# Altium integrated library Capacitor - Aluminium TH.IntLib: 4591 symbols (part 54 of 68)
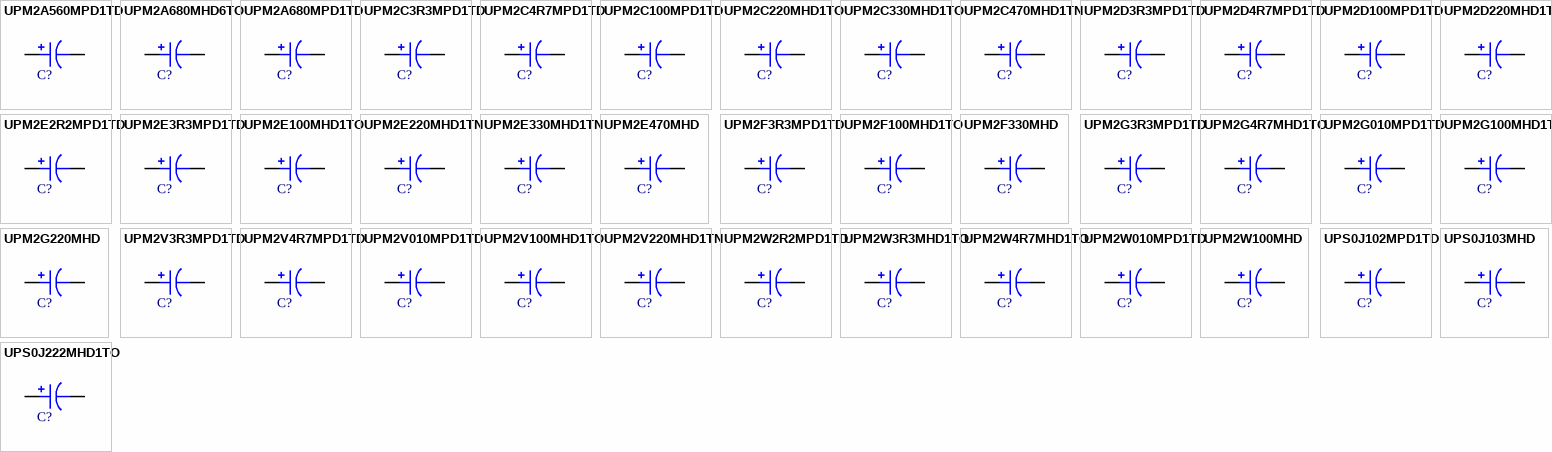
[diagram p167: symbols UPM2A560MPD1TD to UPS0J222MHD1TO]

## UPM2C330MHD1TO
designator C?, comment 33uF  (value not drawn)
CAP ALUM 33UF 20% 160V RADIAL; Part Number: UPM2C330MHD1TO; Manufacturer: Nichicon; TemperatureRange: -40C ~ 105C; Type: Polar; Ripple Current: 175mA @ 120Hz; Value: 33uF; PartId: 23850; Supplier 1: Digi-Key; Supplier Part Number 1: 493-5310-3-ND; ComponentLink1Description: Datasheet; ComponentLink1URL: http://nichicon-us.com/english/products/pdfs/e-upm.pdf; ComponentLink2Description: Digi-Key Listing; ComponentLink2URL: https://www.digikey.com/product-detail/en/nichicon/UPM2C330MHD1TO/493-5310-3-ND/3130315; Tolerance: 20%; Voltage: 160V; Price: 0.6225; Device Package: Radial, Can, 12.5mm
footprint CAP AL TH D12.5 L5 H27
pins: 1, 2

## UPM2C470MHD1TN
designator C?, comment 47uF  (value not drawn)
CAP ALUM 47UF 20% 160V RADIAL; Part Number: UPM2C470MHD1TN; Manufacturer: Nichicon; TemperatureRange: -40C ~ 105C; Type: Polar; Ripple Current: 220mA @ 120Hz; Value: 47uF; PartId: 26797; Supplier 1: Digi-Key; Supplier Part Number 1: 493-5312-3-ND; ComponentLink1Description: Datasheet; ComponentLink1URL: http://nichicon-us.com/english/products/pdfs/e-upm.pdf; ComponentLink2Description: Digi-Key Listing; ComponentLink2URL: https://www.digikey.com/product-detail/en/nichicon/UPM2C470MHD1TN/493-5312-3-ND/3130317; Tolerance: 20%; Voltage: 160V; Price: 0.719; Device Package: Radial, Can, 16mm
footprint CAP AL TH D16 L7.5 H27
pins: 1, 2

## UPM2D3R3MPD1TD
designator C?, comment 3.3uF  (value not drawn)
CAP ALUM 3.3UF 20% 200V RADIAL; Part Number: UPM2D3R3MPD1TD; Manufacturer: Nichicon; TemperatureRange: -40C ~ 105C; Type: Polar; Ripple Current: 50mA @ 120Hz; Value: 3.3uF; PartId: 24631; Supplier 1: Digi-Key; Supplier Part Number 1: 493-5317-3-ND; ComponentLink1Description: Datasheet; ComponentLink1URL: http://nichicon-us.com/english/products/pdfs/e-upm.pdf; ComponentLink2Description: Digi-Key Listing; ComponentLink2URL: https://www.digikey.com/product-detail/en/nichicon/UPM2D3R3MPD1TD/493-5317-3-ND/3130322; Tolerance: 20%; Voltage: 200V; Price: 0.2252; Device Package: Radial, Can, 10mm
footprint CAP AL TH D10 L5 H14.5
pins: 1, 2

## UPM2D4R7MPD1TD
designator C?, comment 4.7uF  (value not drawn)
CAP ALUM 4.7UF 20% 200V RADIAL; Part Number: UPM2D4R7MPD1TD; Manufacturer: Nichicon; TemperatureRange: -40C ~ 105C; Type: Polar; Ripple Current: 60mA @ 120Hz; Value: 4.7uF; PartId: 25097; Supplier 1: Digi-Key; Supplier Part Number 1: 493-5318-3-ND; ComponentLink1Description: Datasheet; ComponentLink1URL: http://nichicon-us.com/english/products/pdfs/e-upm.pdf; ComponentLink2Description: Digi-Key Listing; ComponentLink2URL: https://www.digikey.com/product-detail/en/nichicon/UPM2D4R7MPD1TD/493-5318-3-ND/3130323; Tolerance: 20%; Voltage: 200V; Price: 0.2789; Device Package: Radial, Can, 10mm
footprint CAP AL TH D10 L5 H17.5
pins: 1, 2

## UPM2D100MPD1TD
designator C?, comment 10uF  (value not drawn)
CAP ALUM 10UF 20% 200V RADIAL; Part Number: UPM2D100MPD1TD; Manufacturer: Nichicon; TemperatureRange: -40C ~ 105C; Type: Polar; Ripple Current: 95mA @ 120Hz; Value: 10uF; PartId: 25807; Supplier 1: Digi-Key; Supplier Part Number 1: 493-5315-3-ND; ComponentLink1Description: Datasheet; ComponentLink1URL: http://nichicon-us.com/english/products/pdfs/e-upm.pdf; ComponentLink2Description: Digi-Key Listing; ComponentLink2URL: https://www.digikey.com/product-detail/en/nichicon/UPM2D100MPD1TD/493-5315-3-ND/3130320; Tolerance: 20%; Voltage: 200V; Price: 0.3195; Device Package: Radial, Can, 10mm
footprint CAP AL TH D10 L5 H22
pins: 1, 2

## UPM2D220MHD1TO
designator C?, comment 22uF  (value not drawn)
CAP ALUM 22UF 20% 200V RADIAL; Part Number: UPM2D220MHD1TO; Manufacturer: Nichicon; TemperatureRange: -40C ~ 105C; Type: Polar; Ripple Current: 145mA @ 120Hz; Value: 22uF; PartId: 24142; Supplier 1: Digi-Key; Supplier Part Number 1: 493-12304-1-ND; ComponentLink1Description: Datasheet; ComponentLink1URL: http://nichicon-us.com/english/products/pdfs/e-upm.pdf; ComponentLink2Description: Digi-Key Listing; ComponentLink2URL: https://www.digikey.com/product-detail/en/nichicon/UPM2D220MHD1TO/493-12304-1-ND/4319690; Tolerance: 20%; Voltage: 200V; Price: 1.48; Device Package: Radial, Can, 12.5mm
footprint CAP AL TH D12.5 L5 H27
pins: 1, 2

## UPM2E2R2MPD1TD
designator C?, comment 2.2uF  (value not drawn)
CAP ALUM 2.2UF 20% 250V RADIAL; Part Number: UPM2E2R2MPD1TD; Manufacturer: Nichicon; TemperatureRange: -40C ~ 105C; Type: Polar; Ripple Current: 32mA @ 120Hz; Value: 2.2uF; PartId: 24629; Supplier 1: Digi-Key; Supplier Part Number 1: 493-5321-3-ND; ComponentLink1Description: Datasheet; ComponentLink1URL: http://nichicon-us.com/english/products/pdfs/e-upm.pdf; ComponentLink2Description: Digi-Key Listing; ComponentLink2URL: https://www.digikey.com/product-detail/en/nichicon/UPM2E2R2MPD1TD/493-5321-3-ND/3130326; Tolerance: 20%; Voltage: 250V; Price: 0.2252; Device Package: Radial, Can, 10mm
footprint CAP AL TH D10 L5 H14.5
pins: 1, 2

## UPM2E3R3MPD1TD
designator C?, comment 3.3uF  (value not drawn)
CAP ALUM 3.3UF 20% 250V RADIAL; Part Number: UPM2E3R3MPD1TD; Manufacturer: Nichicon; TemperatureRange: -40C ~ 105C; Type: Polar; Ripple Current: 52mA @ 120Hz; Value: 3.3uF; PartId: 25096; Supplier 1: Digi-Key; Supplier Part Number 1: 493-5323-3-ND; ComponentLink1Description: Datasheet; ComponentLink1URL: http://nichicon-us.com/english/products/pdfs/e-upm.pdf; ComponentLink2Description: Digi-Key Listing; ComponentLink2URL: https://www.digikey.com/product-detail/en/nichicon/UPM2E3R3MPD1TD/493-5323-3-ND/3130328; Tolerance: 20%; Voltage: 250V; Price: 0.2766; Device Package: Radial, Can, 10mm
footprint CAP AL TH D10 L5 H17.5
pins: 1, 2

## UPM2E100MHD1TO
designator C?, comment 10uF  (value not drawn)
CAP ALUM 10UF 20% 250V RADIAL; Part Number: UPM2E100MHD1TO; Manufacturer: Nichicon; TemperatureRange: -40C ~ 105C; Type: Polar; Ripple Current: 98mA @ 120Hz; Value: 10uF; PartId: 23184; Supplier 1: Digi-Key; Supplier Part Number 1: 493-5319-3-ND; ComponentLink1Description: Datasheet; ComponentLink1URL: http://nichicon-us.com/english/products/pdfs/e-upm.pdf; ComponentLink2Description: Digi-Key Listing; ComponentLink2URL: https://www.digikey.com/product-detail/en/nichicon/UPM2E100MHD1TO/493-5319-3-ND/3130324; Tolerance: 20%; Voltage: 250V; Price: 0.4217; Device Package: Radial, Can, 12.5mm
footprint CAP AL TH D12.5 L5 H22
pins: 1, 2

## UPM2E220MHD1TN
designator C?, comment 22uF  (value not drawn)
CAP ALUM 22UF 20% 250V RADIAL; Part Number: UPM2E220MHD1TN; Manufacturer: Nichicon; TemperatureRange: -40C ~ 105C; Type: Polar; Ripple Current: 150mA @ 120Hz; Value: 22uF; PartId: 26794; Supplier 1: Digi-Key; Supplier Part Number 1: 493-5320-3-ND; ComponentLink1Description: Datasheet; ComponentLink1URL: http://nichicon-us.com/english/products/pdfs/e-upm.pdf; ComponentLink2Description: Digi-Key Listing; ComponentLink2URL: https://www.digikey.com/product-detail/en/nichicon/UPM2E220MHD1TN/493-5320-3-ND/3130325; Tolerance: 20%; Voltage: 250V; Price: 0.6906; Device Package: Radial, Can, 16mm
footprint CAP AL TH D16 L7.5 H27
pins: 1, 2

## UPM2E330MHD1TN
designator C?, comment 33uF  (value not drawn)
CAP ALUM 33UF 20% 250V RADIAL; Part Number: UPM2E330MHD1TN; Manufacturer: Nichicon; TemperatureRange: -40C ~ 105C; Type: Polar; Ripple Current: 180mA @ 120Hz; Value: 33uF; PartId: 26801; Supplier 1: Digi-Key; Supplier Part Number 1: 493-5322-3-ND; ComponentLink1Description: Datasheet; ComponentLink1URL: http://nichicon-us.com/english/products/pdfs/e-upm.pdf; ComponentLink2Description: Digi-Key Listing; ComponentLink2URL: https://www.digikey.com/product-detail/en/nichicon/UPM2E330MHD1TN/493-5322-3-ND/3130327; Tolerance: 20%; Voltage: 250V; Price: 0.7488; Device Package: Radial, Can, 16mm
footprint CAP AL TH D16 L7.5 H27
pins: 1, 2

## UPM2E470MHD
designator C?, comment 47uF  (value not drawn)
CAP ALUM 47UF 20% 250V RADIAL; Part Number: UPM2E470MHD; Manufacturer: Nichicon; TemperatureRange: -40C ~ 105C; Type: Polar; Ripple Current: 225mA @ 120Hz; Value: 47uF; PartId: 27125; Supplier 1: Digi-Key; Supplier Part Number 1: 493-5640-ND; ComponentLink1Description: Datasheet; ComponentLink1URL: http://nichicon-us.com/english/products/pdfs/e-upm.pdf; ComponentLink2Description: Digi-Key Listing; ComponentLink2URL: https://www.digikey.com/product-detail/en/nichicon/UPM2E470MHD/493-5640-ND/2599852; Tolerance: 20%; Voltage: 250V; Price: 1.76; Device Package: Radial, Can, 16mm
footprint CAP AL TH D16 L7.5 H33.5
pins: 1, 2

## UPM2F3R3MPD1TD
designator C?, comment 3.3uF  (value not drawn)
CAP ALUM 3.3UF 20% 315V RADIAL; Part Number: UPM2F3R3MPD1TD; Manufacturer: Nichicon; TemperatureRange: -40C ~ 105C; Type: Polar; Ripple Current: 52mA @ 120Hz; Value: 3.3uF; PartId: 25100; Supplier 1: Digi-Key; Supplier Part Number 1: 493-5327-3-ND; ComponentLink1Description: Datasheet; ComponentLink1URL: http://nichicon-us.com/english/products/pdfs/e-upm.pdf; ComponentLink2Description: Digi-Key Listing; ComponentLink2URL: https://www.digikey.com/product-detail/en/nichicon/UPM2F3R3MPD1TD/493-5327-3-ND/3130332; Tolerance: 20%; Voltage: 315V; Price: 0.2806; Device Package: Radial, Can, 10mm
footprint CAP AL TH D10 L5 H17.5
pins: 1, 2

## UPM2F100MHD1TO
designator C?, comment 10uF  (value not drawn)
CAP ALUM 10UF 20% 315V RADIAL; Part Number: UPM2F100MHD1TO; Manufacturer: Nichicon; TemperatureRange: -40C ~ 105C; Type: Polar; Ripple Current: 98mA @ 120Hz; Value: 10uF; PartId: 23420; Supplier 1: Digi-Key; Supplier Part Number 1: 493-5324-1-ND; ComponentLink1Description: Datasheet; ComponentLink1URL: http://nichicon-us.com/english/products/pdfs/e-upm.pdf; ComponentLink2Description: Digi-Key Listing; ComponentLink2URL: https://www.digikey.com/product-detail/en/nichicon/UPM2F100MHD1TO/493-5324-1-ND/3129661; Tolerance: 20%; Voltage: 315V; Price: 1; Device Package: Radial, Can, 12.5mm
footprint CAP AL TH D12.5 L5 H22
pins: 1, 2

## UPM2F330MHD
designator C?, comment 33uF  (value not drawn)
CAP ALUM 33UF 20% 315V RADIAL; Part Number: UPM2F330MHD; Manufacturer: Nichicon; TemperatureRange: -40C ~ 105C; Type: Polar; Ripple Current: 184mA @ 120Hz; Value: 33uF; PartId: 27136; Supplier 1: Digi-Key; Supplier Part Number 1: 493-5641-ND; ComponentLink1Description: Datasheet; ComponentLink1URL: http://nichicon-us.com/english/products/pdfs/e-upm.pdf; ComponentLink2Description: Digi-Key Listing; ComponentLink2URL: https://www.digikey.com/product-detail/en/nichicon/UPM2F330MHD/493-5641-ND/2599858; Tolerance: 20%; Voltage: 315V; Price: 1.79; Device Package: Radial, Can, 16mm
footprint CAP AL TH D16 L7.5 H33.5
pins: 1, 2

## UPM2G3R3MPD1TD
designator C?, comment 3.3uF  (value not drawn)
CAP ALUM 3.3UF 20% 400V RADIAL; Part Number: UPM2G3R3MPD1TD; Manufacturer: Nichicon; TemperatureRange: -40C ~ 105C; Type: Polar; Ripple Current: 47mA @ 120Hz; Value: 3.3uF; PartId: 25820; Supplier 1: Digi-Key; Supplier Part Number 1: 493-5331-3-ND; ComponentLink1Description: Datasheet; ComponentLink1URL: http://nichicon-us.com/english/products/pdfs/e-upm.pdf; ComponentLink2Description: Digi-Key Listing; ComponentLink2URL: https://www.digikey.com/product-detail/en/nichicon/UPM2G3R3MPD1TD/493-5331-3-ND/3130336; Tolerance: 20%; Voltage: 400V; Price: 0.3389; Device Package: Radial, Can, 10mm
footprint CAP AL TH D10 L5 H22
pins: 1, 2

## UPM2G4R7MHD1TO
designator C?, comment 4.7uF  (value not drawn)
CAP ALUM 4.7UF 20% 400V RADIAL; Part Number: UPM2G4R7MHD1TO; Manufacturer: Nichicon; TemperatureRange: -40C ~ 105C; Type: Polar; Ripple Current: 55mA @ 120Hz; Value: 4.7uF; PartId: 23198; Supplier 1: Digi-Key; Supplier Part Number 1: 493-5332-3-ND; ComponentLink1Description: Datasheet; ComponentLink1URL: http://nichicon-us.com/english/products/pdfs/e-upm.pdf; ComponentLink2Description: Digi-Key Listing; ComponentLink2URL: https://www.digikey.com/product-detail/en/nichicon/UPM2G4R7MHD1TO/493-5332-3-ND/3130337; Tolerance: 20%; Voltage: 400V; Price: 0.4528; Device Package: Radial, Can, 12.5mm
footprint CAP AL TH D12.5 L5 H22
pins: 1, 2

## UPM2G010MPD1TD
designator C?, comment 1uF  (value not drawn)
CAP ALUM 1UF 20% 400V RADIAL; Part Number: UPM2G010MPD1TD; Manufacturer: Nichicon; TemperatureRange: -40C ~ 105C; Type: Polar; Ripple Current: 17mA @ 120Hz; Value: 1uF; PartId: 24649; Supplier 1: Digi-Key; Supplier Part Number 1: 493-5329-3-ND; ComponentLink1Description: Datasheet; ComponentLink1URL: http://nichicon-us.com/english/products/pdfs/e-upm.pdf; ComponentLink2Description: Digi-Key Listing; ComponentLink2URL: https://www.digikey.com/product-detail/en/nichicon/UPM2G010MPD1TD/493-5329-3-ND/3130334; Tolerance: 20%; Voltage: 400V; Price: 0.253; Device Package: Radial, Can, 10mm
footprint CAP AL TH D10 L5 H14.5
pins: 1, 2

## UPM2G100MHD1TO
designator C?, comment 10uF  (value not drawn)
CAP ALUM 10UF 20% 400V RADIAL; Part Number: UPM2G100MHD1TO; Manufacturer: Nichicon; TemperatureRange: -40C ~ 105C; Type: Polar; Ripple Current: 85mA @ 120Hz; Value: 10uF; PartId: 24169; Supplier 1: Digi-Key; Supplier Part Number 1: 493-5330-1-ND; ComponentLink1Description: Datasheet; ComponentLink1URL: http://nichicon-us.com/english/products/pdfs/e-upm.pdf; ComponentLink2Description: Digi-Key Listing; ComponentLink2URL: https://www.digikey.com/product-detail/en/nichicon/UPM2G100MHD1TO/493-5330-1-ND/3129667; Tolerance: 20%; Voltage: 400V; Price: 1.66; Device Package: Radial, Can, 12.5mm
footprint CAP AL TH D12.5 L5 H27
pins: 1, 2

## UPM2G220MHD
designator C?, comment 22uF  (value not drawn)
CAP ALUM 22UF 20% 400V RADIAL; Part Number: UPM2G220MHD; Manufacturer: Nichicon; TemperatureRange: -40C ~ 105C; Type: Polar; Ripple Current: 130mA @ 120Hz; Value: 22uF; PartId: 27187; Supplier 1: Digi-Key; Supplier Part Number 1: 493-5643-ND; ComponentLink1Description: Datasheet; ComponentLink1URL: http://nichicon-us.com/english/products/pdfs/e-upm.pdf; ComponentLink2Description: Digi-Key Listing; ComponentLink2URL: https://www.digikey.com/product-detail/en/nichicon/UPM2G220MHD/493-5643-ND/2599864; Tolerance: 20%; Voltage: 400V; Price: 1.97; Device Package: Radial, Can, 16mm
footprint CAP AL TH D16 L7.5 H33.5
pins: 1, 2

## UPM2V3R3MPD1TD
designator C?, comment 3.3uF  (value not drawn)
CAP ALUM 3.3UF 20% 350V RADIAL; Part Number: UPM2V3R3MPD1TD; Manufacturer: Nichicon; TemperatureRange: -40C ~ 105C; Type: Polar; Ripple Current: 54mA @ 120Hz; Value: 3.3uF; PartId: 25806; Supplier 1: Digi-Key; Supplier Part Number 1: 493-5336-3-ND; ComponentLink1Description: Datasheet; ComponentLink1URL: http://nichicon-us.com/english/products/pdfs/e-upm.pdf; ComponentLink2Description: Digi-Key Listing; ComponentLink2URL: https://www.digikey.com/product-detail/en/nichicon/UPM2V3R3MPD1TD/493-5336-3-ND/3130341; Tolerance: 20%; Voltage: 350V; Price: 0.3195; Device Package: Radial, Can, 10mm
footprint CAP AL TH D10 L5 H22
pins: 1, 2

## UPM2V4R7MPD1TD
designator C?, comment 4.7uF  (value not drawn)
CAP ALUM 4.7UF 20% 350V RADIAL; Part Number: UPM2V4R7MPD1TD; Manufacturer: Nichicon; TemperatureRange: -40C ~ 105C; Type: Polar; Ripple Current: 65mA @ 120Hz; Value: 4.7uF; PartId: 25816; Supplier 1: Digi-Key; Supplier Part Number 1: 493-5337-3-ND; ComponentLink1Description: Datasheet; ComponentLink1URL: http://nichicon-us.com/english/products/pdfs/e-upm.pdf; ComponentLink2Description: Digi-Key Listing; ComponentLink2URL: https://www.digikey.com/product-detail/en/nichicon/UPM2V4R7MPD1TD/493-5337-3-ND/3130342; Tolerance: 20%; Voltage: 350V; Price: 0.3359; Device Package: Radial, Can, 10mm
footprint CAP AL TH D10 L5 H22
pins: 1, 2

## UPM2V010MPD1TD
designator C?, comment 1uF  (value not drawn)
CAP ALUM 1UF 20% 350V RADIAL; Part Number: UPM2V010MPD1TD; Manufacturer: Nichicon; TemperatureRange: -40C ~ 105C; Type: Polar; Ripple Current: 21mA @ 120Hz; Value: 1uF; PartId: 24634; Supplier 1: Digi-Key; Supplier Part Number 1: 493-5333-3-ND; ComponentLink1Description: Datasheet; ComponentLink1URL: http://nichicon-us.com/english/products/pdfs/e-upm.pdf; ComponentLink2Description: Digi-Key Listing; ComponentLink2URL: https://www.digikey.com/product-detail/en/nichicon/UPM2V010MPD1TD/493-5333-3-ND/3130338; Tolerance: 20%; Voltage: 350V; Price: 0.2294; Device Package: Radial, Can, 10mm
footprint CAP AL TH D10 L5 H14.5
pins: 1, 2

## UPM2V100MHD1TO
designator C?, comment 10uF  (value not drawn)
CAP ALUM 10UF 20% 350V RADIAL; Part Number: UPM2V100MHD1TO; Manufacturer: Nichicon; TemperatureRange: -40C ~ 105C; Type: Polar; Ripple Current: 100mA @ 120Hz; Value: 10uF; PartId: 24152; Supplier 1: Digi-Key; Supplier Part Number 1: 493-5334-1-ND; ComponentLink1Description: Datasheet; ComponentLink1URL: http://nichicon-us.com/english/products/pdfs/e-upm.pdf; ComponentLink2Description: Digi-Key Listing; ComponentLink2URL: https://www.digikey.com/product-detail/en/nichicon/UPM2V100MHD1TO/493-5334-1-ND/3129671; Tolerance: 20%; Voltage: 350V; Price: 1.53; Device Package: Radial, Can, 12.5mm
footprint CAP AL TH D12.5 L5 H27
pins: 1, 2

## UPM2V220MHD1TN
designator C?, comment 22uF  (value not drawn)
CAP ALUM 22UF 20% 350V RADIAL; Part Number: UPM2V220MHD1TN; Manufacturer: Nichicon; TemperatureRange: -40C ~ 105C; Type: Polar; Ripple Current: 150mA @ 120Hz; Value: 22uF; PartId: 26806; Supplier 1: Digi-Key; Supplier Part Number 1: 493-5335-3-ND; ComponentLink1Description: Datasheet; ComponentLink1URL: http://nichicon-us.com/english/products/pdfs/e-upm.pdf; ComponentLink2Description: Digi-Key Listing; ComponentLink2URL: https://www.digikey.com/product-detail/en/nichicon/UPM2V220MHD1TN/493-5335-3-ND/3130340; Tolerance: 20%; Voltage: 350V; Price: 0.8342; Device Package: Radial, Can, 16mm
footprint CAP AL TH D16 L7.5 H27
pins: 1, 2

## UPM2W2R2MPD1TD
designator C?, comment 2.2uF  (value not drawn)
CAP ALUM 2.2UF 20% 450V RADIAL; Part Number: UPM2W2R2MPD1TD; Manufacturer: Nichicon; TemperatureRange: -25C ~ 105C; Type: Polar; Ripple Current: 28mA @ 120Hz; Value: 2.2uF; PartId: 25815; Supplier 1: Digi-Key; Supplier Part Number 1: 493-5339-3-ND; ComponentLink1Description: Datasheet; ComponentLink1URL: http://nichicon-us.com/english/products/pdfs/e-upm.pdf; ComponentLink2Description: Digi-Key Listing; ComponentLink2URL: https://www.digikey.com/product-detail/en/nichicon/UPM2W2R2MPD1TD/493-5339-3-ND/3130344; Tolerance: 20%; Voltage: 450V; Price: 0.3346; Device Package: Radial, Can, 10mm
footprint CAP AL TH D10 L5 H22
pins: 1, 2

## UPM2W3R3MHD1TO
designator C?, comment 3.3uF  (value not drawn)
CAP ALUM 3.3UF 20% 450V RADIAL; Part Number: UPM2W3R3MHD1TO; Manufacturer: Nichicon; TemperatureRange: -25C ~ 105C; Type: Polar; Ripple Current: 48mA @ 120Hz; Value: 3.3uF; PartId: 23199; Supplier 1: Digi-Key; Supplier Part Number 1: 493-12204-3-ND; ComponentLink1Description: Datasheet; ComponentLink1URL: http://nichicon-us.com/english/products/pdfs/e-upm.pdf; ComponentLink2Description: Digi-Key Listing; ComponentLink2URL: https://www.digikey.com/product-detail/en/nichicon/UPM2W3R3MHD1TO/493-12204-3-ND/4321347; Tolerance: 20%; Voltage: 450V; Price: 0.4528; Device Package: Radial, Can, 12.5mm
footprint CAP AL TH D12.5 L5 H22
pins: 1, 2

## UPM2W4R7MHD1TO
designator C?, comment 4.7uF  (value not drawn)
CAP ALUM 4.7UF 20% 450V RADIAL; Part Number: UPM2W4R7MHD1TO; Manufacturer: Nichicon; TemperatureRange: -25C ~ 105C; Type: Polar; Ripple Current: 55mA @ 120Hz; Value: 4.7uF; PartId: 23859; Supplier 1: Digi-Key; Supplier Part Number 1: 493-5340-3-ND; ComponentLink1Description: Datasheet; ComponentLink1URL: http://nichicon-us.com/english/products/pdfs/e-upm.pdf; ComponentLink2Description: Digi-Key Listing; ComponentLink2URL: https://www.digikey.com/product-detail/en/nichicon/UPM2W4R7MHD1TO/493-5340-3-ND/3130345; Tolerance: 20%; Voltage: 450V; Price: 0.656; Device Package: Radial, Can, 12.5mm
footprint CAP AL TH D12.5 L5 H27
pins: 1, 2

## UPM2W010MPD1TD
designator C?, comment 1uF  (value not drawn)
CAP ALUM 1UF 20% 450V RADIAL; Part Number: UPM2W010MPD1TD; Manufacturer: Nichicon; TemperatureRange: -25C ~ 105C; Type: Polar; Ripple Current: 17mA @ 120Hz; Value: 1uF; PartId: 25112; Supplier 1: Digi-Key; Supplier Part Number 1: 493-5338-3-ND; ComponentLink1Description: Datasheet; ComponentLink1URL: http://nichicon-us.com/english/products/pdfs/e-upm.pdf; ComponentLink2Description: Digi-Key Listing; ComponentLink2URL: https://www.digikey.com/product-detail/en/nichicon/UPM2W010MPD1TD/493-5338-3-ND/3130343; Tolerance: 20%; Voltage: 450V; Price: 0.3068; Device Package: Radial, Can, 10mm
footprint CAP AL TH D10 L5 H17.5
pins: 1, 2

## UPM2W100MHD
designator C?, comment 10uF  (value not drawn)
CAP ALUM 10UF 20% 450V RADIAL; Part Number: UPM2W100MHD; Manufacturer: Nichicon; TemperatureRange: -25C ~ 105C; Type: Polar; Ripple Current: 90mA @ 120Hz; Value: 10uF; PartId: 26941; Supplier 1: Digi-Key; Supplier Part Number 1: UPM2W100MHD-ND; ComponentLink1Description: Datasheet; ComponentLink1URL: http://nichicon-us.com/english/products/pdfs/e-upm.pdf; ComponentLink2Description: Digi-Key Listing; ComponentLink2URL: https://www.digikey.com/product-detail/en/nichicon/UPM2W100MHD/UPM2W100MHD-ND/2599878; Tolerance: 20%; Voltage: 450V; Price: 1.87; Device Package: Radial, Can, 16mm
footprint CAP AL TH D16 L7.5 H27
pins: 1, 2

## UPS0J102MPD1TD
designator C?, comment 1000uF  (value not drawn)
CAP ALUM 1000UF 20% 6.3V RADIAL; Part Number: UPS0J102MPD1TD; Manufacturer: Nichicon; TemperatureRange: -55C ~ 105C; Type: Polar; Ripple Current: 522mA @ 120Hz; Impedance: 190 mOhm; Value: 1000uF; PartId: 24899; Supplier 1: Digi-Key; Supplier Part Number 1: 493-5342-1-ND; ComponentLink1Description: Datasheet; ComponentLink1URL: http://nichicon-us.com/english/products/pdfs/e-ups.pdf; ComponentLink2Description: Digi-Key Listing; ComponentLink2URL: https://www.digikey.com/product-detail/en/nichicon/UPS0J102MPD1TD/493-5342-1-ND/3129679; Tolerance: 20%; Voltage: 6.3V; Price: 0.48; Device Package: Radial, Can, 10mm
footprint CAP AL TH D10 L5 H14.5
pins: 1, 2

## UPS0J103MHD
designator C?, comment 10000uF  (value not drawn)
CAP ALUM 10000UF 20% 6.3V RADIAL; Part Number: UPS0J103MHD; Manufacturer: Nichicon; TemperatureRange: -55C ~ 105C; Type: Polar; Ripple Current: 2.045A @ 120Hz; Impedance: 33 mOhm; Value: 10000uF; PartId: 27151; Supplier 1: Digi-Key; Supplier Part Number 1: 493-5648-ND; ComponentLink1Description: Datasheet; ComponentLink1URL: http://nichicon-us.com/english/products/pdfs/e-ups.pdf; ComponentLink2Description: Digi-Key Listing; ComponentLink2URL: https://www.digikey.com/product-detail/en/nichicon/UPS0J103MHD/493-5648-ND/2599886; Tolerance: 20%; Voltage: 6.3V; Price: 1.85; Device Package: Radial, Can, 16mm
footprint CAP AL TH D16 L7.5 H33.5
pins: 1, 2

## UPS0J222MHD1TO
designator C?, comment 2200uF  (value not drawn)
CAP ALUM 2200UF 20% 6.3V RADIAL; Part Number: UPS0J222MHD1TO; Manufacturer: Nichicon; TemperatureRange: -55C ~ 105C; Type: Polar; Ripple Current: 1.088A @ 120Hz; Impedance: 75 mOhm; Value: 2200uF; PartId: 23131; Supplier 1: Digi-Key; Supplier Part Number 1: 493-5345-3-ND; ComponentLink1Description: Datasheet; ComponentLink1URL: http://nichicon-us.com/english/products/pdfs/e-ups.pdf; ComponentLink2Description: Digi-Key Listing; ComponentLink2URL: https://www.digikey.com/product-detail/en/nichicon/UPS0J222MHD1TO/493-5345-3-ND/3130350; Tolerance: 20%; Voltage: 6.3V; Price: 0.242; Device Package: Radial, Can, 12.5mm
footprint CAP AL TH D12.5 L5 H22
pins: 1, 2

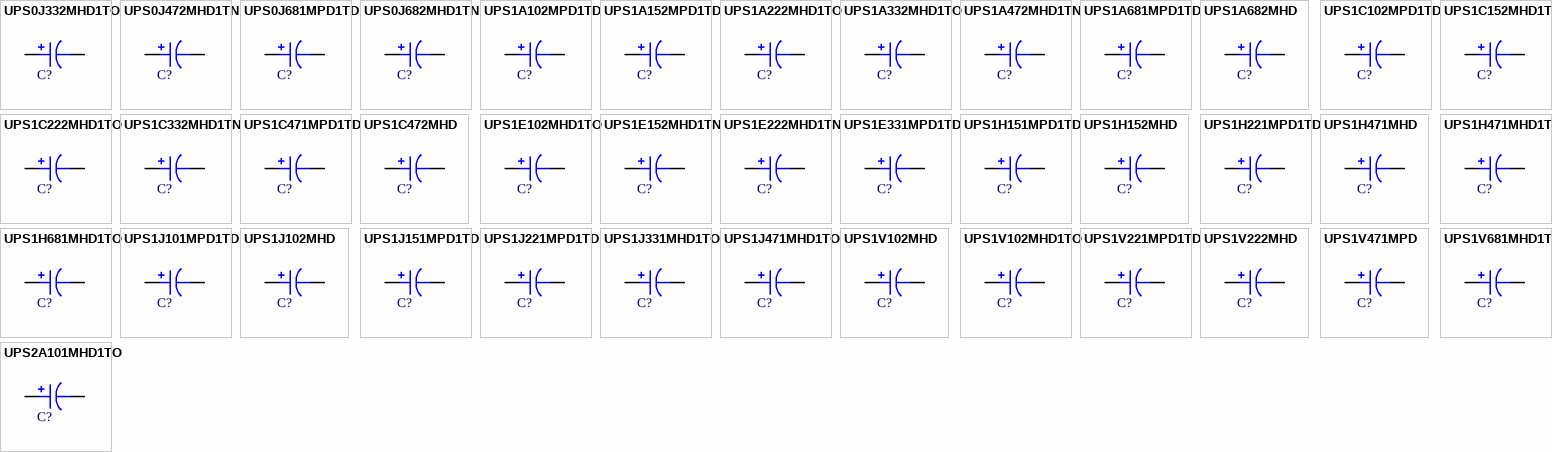
[diagram p90: symbols UPS0J332MHD1TO to UPS2A101MHD1TO]

## UPS0J332MHD1TO
designator C?, comment 3300uF  (value not drawn)
CAP ALUM 3300UF 20% 6.3V RADIAL; Part Number: UPS0J332MHD1TO; Manufacturer: Nichicon; TemperatureRange: -55C ~ 105C; Type: Polar; Ripple Current: 1.088A @ 120Hz; Impedance: 75 mOhm; Value: 3300uF; PartId: 23130; Supplier 1: Digi-Key; Supplier Part Number 1: 493-5348-3-ND; ComponentLink1Description: Datasheet; ComponentLink1URL: http://nichicon-us.com/english/products/pdfs/e-ups.pdf; ComponentLink2Description: Digi-Key Listing; ComponentLink2URL: https://www.digikey.com/product-detail/en/nichicon/UPS0J332MHD1TO/493-5348-3-ND/3130353; Tolerance: 20%; Voltage: 6.3V; Price: 0.2408; Device Package: Radial, Can, 12.5mm
footprint CAP AL TH D12.5 L5 H22
pins: 1, 2

## UPS0J472MHD1TN
designator C?, comment 4700uF  (value not drawn)
CAP ALUM 4700UF 20% 6.3V RADIAL; Part Number: UPS0J472MHD1TN; Manufacturer: Nichicon; TemperatureRange: -55C ~ 105C; Type: Polar; Ripple Current: 1.653A @ 120Hz; Impedance: 38 mOhm; Value: 4700uF; PartId: 26734; Supplier 1: Digi-Key; Supplier Part Number 1: 493-5349-3-ND; ComponentLink1Description: Datasheet; ComponentLink1URL: http://nichicon-us.com/english/products/pdfs/e-ups.pdf; ComponentLink2Description: Digi-Key Listing; ComponentLink2URL: https://www.digikey.com/product-detail/en/nichicon/UPS0J472MHD1TN/493-5349-3-ND/3130354; Tolerance: 20%; Voltage: 6.3V; Price: 0.4559; Device Package: Radial, Can, 16mm
footprint CAP AL TH D16 L7.5 H27
pins: 1, 2

## UPS0J681MPD1TD
designator C?, comment 680uF  (value not drawn)
CAP ALUM 680UF 20% 6.3V RADIAL; Part Number: UPS0J681MPD1TD; Manufacturer: Nichicon; TemperatureRange: -55C ~ 105C; Type: Polar; Ripple Current: 426mA @ 120Hz; Impedance: 190 mOhm; Value: 680uF; PartId: 24516; Supplier 1: Digi-Key; Supplier Part Number 1: 493-5350-3-ND; ComponentLink1Description: Datasheet; ComponentLink1URL: http://nichicon-us.com/english/products/pdfs/e-ups.pdf; ComponentLink2Description: Digi-Key Listing; ComponentLink2URL: https://www.digikey.com/product-detail/en/nichicon/UPS0J681MPD1TD/493-5350-3-ND/3130355; Tolerance: 20%; Voltage: 6.3V; Price: 0.1325; Device Package: Radial, Can, 10mm
footprint CAP AL TH D10 L5 H14.5
pins: 1, 2

## UPS0J682MHD1TN
designator C?, comment 6800uF  (value not drawn)
CAP ALUM 6800UF 20% 6.3V RADIAL; Part Number: UPS0J682MHD1TN; Manufacturer: Nichicon; TemperatureRange: -55C ~ 105C; Type: Polar; Ripple Current: 1.653A @ 120Hz; Impedance: 38 mOhm; Value: 6800uF; PartId: 26744; Supplier 1: Digi-Key; Supplier Part Number 1: 493-5351-3-ND; ComponentLink1Description: Datasheet; ComponentLink1URL: http://nichicon-us.com/english/products/pdfs/e-ups.pdf; ComponentLink2Description: Digi-Key Listing; ComponentLink2URL: https://www.digikey.com/product-detail/en/nichicon/UPS0J682MHD1TN/493-5351-3-ND/3130356; Tolerance: 20%; Voltage: 6.3V; Price: 0.5072; Device Package: Radial, Can, 16mm
footprint CAP AL TH D16 L7.5 H27
pins: 1, 2

## UPS1A102MPD1TD
designator C?, comment 1000uF  (value not drawn)
CAP ALUM 1000UF 20% 10V RADIAL; Part Number: UPS1A102MPD1TD; Manufacturer: Nichicon; TemperatureRange: -55C ~ 105C; Type: Polar; Ripple Current: 696mA @ 120Hz; Impedance: 140 mOhm; Value: 1000uF; PartId: 25020; Supplier 1: Digi-Key; Supplier Part Number 1: 493-11831-3-ND; ComponentLink1Description: Datasheet; ComponentLink1URL: http://nichicon-us.com/english/products/pdfs/e-ups.pdf; ComponentLink2Description: Digi-Key Listing; ComponentLink2URL: https://www.digikey.com/product-detail/en/nichicon/UPS1A102MPD1TD/493-11831-3-ND/4320974; Tolerance: 20%; Voltage: 10V; Price: 0.1626; Device Package: Radial, Can, 10mm
footprint CAP AL TH D10 L5 H17.5
pins: 1, 2

## UPS1A152MPD1TD
designator C?, comment 1500uF  (value not drawn)
CAP ALUM 1500UF 20% 10V RADIAL; Part Number: UPS1A152MPD1TD; Manufacturer: Nichicon; TemperatureRange: -55C ~ 105C; Type: Polar; Ripple Current: 870mA @ 120Hz; Impedance: 110 mOhm; Value: 1500uF; PartId: 25756; Supplier 1: Digi-Key; Supplier Part Number 1: 493-11921-3-ND; ComponentLink1Description: Datasheet; ComponentLink1URL: http://nichicon-us.com/english/products/pdfs/e-ups.pdf; ComponentLink2Description: Digi-Key Listing; ComponentLink2URL: https://www.digikey.com/product-detail/en/nichicon/UPS1A152MPD1TD/493-11921-3-ND/4321064; Tolerance: 20%; Voltage: 10V; Price: 0.2038; Device Package: Radial, Can, 10mm
footprint CAP AL TH D10 L5 H22
pins: 1, 2

## UPS1A222MHD1TO
designator C?, comment 2200uF  (value not drawn)
CAP ALUM 2200UF 20% 10V RADIAL; Part Number: UPS1A222MHD1TO; Manufacturer: Nichicon; TemperatureRange: -55C ~ 105C; Type: Polar; Ripple Current: 1.088A @ 120Hz; Impedance: 75 mOhm; Value: 2200uF; PartId: 23250; Supplier 1: Digi-Key; Supplier Part Number 1: 493-11982-1-ND; ComponentLink1Description: Datasheet; ComponentLink1URL: http://nichicon-us.com/english/products/pdfs/e-ups.pdf; ComponentLink2Description: Digi-Key Listing; ComponentLink2URL: https://www.digikey.com/product-detail/en/nichicon/UPS1A222MHD1TO/493-11982-1-ND/4319709; Tolerance: 20%; Voltage: 10V; Price: 0.7; Device Package: Radial, Can, 12.5mm
footprint CAP AL TH D12.5 L5 H22
pins: 1, 2

## UPS1A332MHD1TO
designator C?, comment 3300uF  (value not drawn)
CAP ALUM 3300UF 20% 10V RADIAL; Part Number: UPS1A332MHD1TO; Manufacturer: Nichicon; TemperatureRange: -55C ~ 105C; Type: Polar; Ripple Current: 1.349A @ 120Hz; Impedance: 57 mOhm; Value: 3300uF; PartId: 23998; Supplier 1: Digi-Key; Supplier Part Number 1: 493-12174-1-ND; ComponentLink1Description: Datasheet; ComponentLink1URL: http://nichicon-us.com/english/products/pdfs/e-ups.pdf; ComponentLink2Description: Digi-Key Listing; ComponentLink2URL: https://www.digikey.com/product-detail/en/nichicon/UPS1A332MHD1TO/493-12174-1-ND/4319711; Tolerance: 20%; Voltage: 10V; Price: 1.04; Device Package: Radial, Can, 12.5mm
footprint CAP AL TH D12.5 L5 H27
pins: 1, 2

## UPS1A472MHD1TN
designator C?, comment 4700uF  (value not drawn)
CAP ALUM 4700UF 20% 10V RADIAL; Part Number: UPS1A472MHD1TN; Manufacturer: Nichicon; TemperatureRange: -55C ~ 105C; Type: Polar; Ripple Current: 1.653A @ 120Hz; Impedance: 38 mOhm; Value: 4700uF; PartId: 26742; Supplier 1: Digi-Key; Supplier Part Number 1: 493-12166-3-ND; ComponentLink1Description: Datasheet; ComponentLink1URL: http://nichicon-us.com/english/products/pdfs/e-ups.pdf; ComponentLink2Description: Digi-Key Listing; ComponentLink2URL: https://www.digikey.com/product-detail/en/nichicon/UPS1A472MHD1TN/493-12166-3-ND/4321309; Tolerance: 20%; Voltage: 10V; Price: 0.5054; Device Package: Radial, Can, 16mm
footprint CAP AL TH D16 L7.5 H27
pins: 1, 2

## UPS1A681MPD1TD
designator C?, comment 680uF  (value not drawn)
CAP ALUM 680UF 20% 10V RADIAL; Part Number: UPS1A681MPD1TD; Manufacturer: Nichicon; TemperatureRange: -55C ~ 105C; Type: Polar; Ripple Current: 426mA @ 120Hz; Impedance: 190 mOhm; Value: 680uF; PartId: 24538; Supplier 1: Digi-Key; Supplier Part Number 1: 493-5355-3-ND; ComponentLink1Description: Datasheet; ComponentLink1URL: http://nichicon-us.com/english/products/pdfs/e-ups.pdf; ComponentLink2Description: Digi-Key Listing; ComponentLink2URL: https://www.digikey.com/product-detail/en/nichicon/UPS1A681MPD1TD/493-5355-3-ND/3130360; Tolerance: 20%; Voltage: 10V; Price: 0.1464; Device Package: Radial, Can, 10mm
footprint CAP AL TH D10 L5 H14.5
pins: 1, 2

## UPS1A682MHD
designator C?, comment 6800uF  (value not drawn)
CAP ALUM 6800UF 20% 10V RADIAL; Part Number: UPS1A682MHD; Manufacturer: Nichicon; TemperatureRange: -55C ~ 105C; Type: Polar; Ripple Current: 2.045A @ 120Hz; Impedance: 33 mOhm; Value: 6800uF; PartId: 27155; Supplier 1: Digi-Key; Supplier Part Number 1: 493-5651-ND; ComponentLink1Description: Datasheet; ComponentLink1URL: http://nichicon-us.com/english/products/pdfs/e-ups.pdf; ComponentLink2Description: Digi-Key Listing; ComponentLink2URL: https://www.digikey.com/product-detail/en/nichicon/UPS1A682MHD/493-5651-ND/2599914; Tolerance: 20%; Voltage: 10V; Price: 1.86; Device Package: Radial, Can, 16mm
footprint CAP AL TH D16 L7.5 H33.5
pins: 1, 2

## UPS1C102MPD1TD
designator C?, comment 1000uF  (value not drawn)
CAP ALUM 1000UF 20% 16V RADIAL; Part Number: UPS1C102MPD1TD; Manufacturer: Nichicon; TemperatureRange: -55C ~ 105C; Type: Polar; Ripple Current: 870mA @ 120Hz; Impedance: 110 mOhm; Value: 1000uF; PartId: 25755; Supplier 1: Digi-Key; Supplier Part Number 1: 493-11922-3-ND; ComponentLink1Description: Datasheet; ComponentLink1URL: http://nichicon-us.com/english/products/pdfs/e-ups.pdf; ComponentLink2Description: Digi-Key Listing; ComponentLink2URL: https://www.digikey.com/product-detail/en/nichicon/UPS1C102MPD1TD/493-11922-3-ND/4321065; Tolerance: 20%; Voltage: 16V; Price: 0.2038; Device Package: Radial, Can, 10mm
footprint CAP AL TH D10 L5 H22
pins: 1, 2

## UPS1C152MHD1TO
designator C?, comment 1500uF  (value not drawn)
CAP ALUM 1500UF 20% 16V RADIAL; Part Number: UPS1C152MHD1TO; Manufacturer: Nichicon; TemperatureRange: -55C ~ 105C; Type: Polar; Ripple Current: 1.088A @ 120Hz; Impedance: 75 mOhm; Value: 1500uF; PartId: 23233; Supplier 1: Digi-Key; Supplier Part Number 1: 493-11975-1-ND; ComponentLink1Description: Datasheet; ComponentLink1URL: http://nichicon-us.com/english/products/pdfs/e-ups.pdf; ComponentLink2Description: Digi-Key Listing; ComponentLink2URL: https://www.digikey.com/product-detail/en/nichicon/UPS1C152MHD1TO/493-11975-1-ND/4319717; Tolerance: 20%; Voltage: 16V; Price: 0.67; Device Package: Radial, Can, 12.5mm
footprint CAP AL TH D12.5 L5 H22
pins: 1, 2

## UPS1C222MHD1TO
designator C?, comment 2200uF  (value not drawn)
CAP ALUM 2200UF 20% 16V RADIAL; Part Number: UPS1C222MHD1TO; Manufacturer: Nichicon; TemperatureRange: -55C ~ 105C; Type: Polar; Ripple Current: 1.349A @ 120Hz; Impedance: 57 mOhm; Value: 2200uF; PartId: 23796; Supplier 1: Digi-Key; Supplier Part Number 1: 493-12077-3-ND; ComponentLink1Description: Datasheet; ComponentLink1URL: http://nichicon-us.com/english/products/pdfs/e-ups.pdf; ComponentLink2Description: Digi-Key Listing; ComponentLink2URL: https://www.digikey.com/product-detail/en/nichicon/UPS1C222MHD1TO/493-12077-3-ND/4321220; Tolerance: 20%; Voltage: 16V; Price: 0.3315; Device Package: Radial, Can, 12.5mm
footprint CAP AL TH D12.5 L5 H27
pins: 1, 2

## UPS1C332MHD1TN
designator C?, comment 3300uF  (value not drawn)
CAP ALUM 3300UF 20% 16V RADIAL; Part Number: UPS1C332MHD1TN; Manufacturer: Nichicon; TemperatureRange: -55C ~ 105C; Type: Polar; Ripple Current: 1.653A @ 120Hz; Impedance: 38 mOhm; Value: 3300uF; PartId: 26741; Supplier 1: Digi-Key; Supplier Part Number 1: 493-5360-3-ND; ComponentLink1Description: Datasheet; ComponentLink1URL: http://nichicon-us.com/english/products/pdfs/e-ups.pdf; ComponentLink2Description: Digi-Key Listing; ComponentLink2URL: https://www.digikey.com/product-detail/en/nichicon/UPS1C332MHD1TN/493-5360-3-ND/3130365; Tolerance: 20%; Voltage: 16V; Price: 0.5052; Device Package: Radial, Can, 16mm
footprint CAP AL TH D16 L7.5 H27
pins: 1, 2

## UPS1C471MPD1TD
designator C?, comment 470uF  (value not drawn)
CAP ALUM 470UF 20% 16V RADIAL; Part Number: UPS1C471MPD1TD; Manufacturer: Nichicon; TemperatureRange: -55C ~ 105C; Type: Polar; Ripple Current: 426mA @ 120Hz; Impedance: 190 mOhm; Value: 470uF; PartId: 24738; Supplier 1: Digi-Key; Supplier Part Number 1: 493-11712-1-ND; ComponentLink1Description: Datasheet; ComponentLink1URL: http://nichicon-us.com/english/products/pdfs/e-ups.pdf; ComponentLink2Description: Digi-Key Listing; ComponentLink2URL: https://www.digikey.com/product-detail/en/nichicon/UPS1C471MPD1TD/493-11712-1-ND/4319720; Tolerance: 20%; Voltage: 16V; Price: 0.41; Device Package: Radial, Can, 10mm
footprint CAP AL TH D10 L5 H14.5
pins: 1, 2

## UPS1C472MHD
designator C?, comment 4700uF  (value not drawn)
CAP ALUM 4700UF 20% 16V RADIAL; Part Number: UPS1C472MHD; Manufacturer: Nichicon; TemperatureRange: -55C ~ 105C; Type: Polar; Ripple Current: 2.045A @ 120Hz; Impedance: 33 mOhm; Value: 4700uF; PartId: 27144; Supplier 1: Digi-Key; Supplier Part Number 1: 493-11147-ND; ComponentLink1Description: Datasheet; ComponentLink1URL: http://nichicon-us.com/english/products/pdfs/e-ups.pdf; ComponentLink2Description: Digi-Key Listing; ComponentLink2URL: https://www.digikey.com/product-detail/en/nichicon/UPS1C472MHD/493-11147-ND/2599929; Tolerance: 20%; Voltage: 16V; Price: 1.81; Device Package: Radial, Can, 16mm
footprint CAP AL TH D16 L7.5 H33.5
pins: 1, 2

## UPS1E102MHD1TO
designator C?, comment 1000uF  (value not drawn)
CAP ALUM 1000UF 20% 25V RADIAL; Part Number: UPS1E102MHD1TO; Manufacturer: Nichicon; TemperatureRange: -55C ~ 105C; Type: Polar; Ripple Current: 1.088A @ 120Hz; Impedance: 75 mOhm; Value: 1000uF; PartId: 23129; Supplier 1: Digi-Key; Supplier Part Number 1: 493-11963-3-ND; ComponentLink1Description: Datasheet; ComponentLink1URL: http://nichicon-us.com/english/products/pdfs/e-ups.pdf; ComponentLink2Description: Digi-Key Listing; ComponentLink2URL: https://www.digikey.com/product-detail/en/nichicon/UPS1E102MHD1TO/493-11963-3-ND/4321106; Tolerance: 20%; Voltage: 25V; Price: 0.2398; Device Package: Radial, Can, 12.5mm
footprint CAP AL TH D12.5 L5 H22
pins: 1, 2

## UPS1E152MHD1TN
designator C?, comment 1500uF  (value not drawn)
CAP ALUM 1500UF 20% 25V RADIAL; Part Number: UPS1E152MHD1TN; Manufacturer: Nichicon; TemperatureRange: -55C ~ 105C; Type: Polar; Ripple Current: 1.653A @ 120Hz; Impedance: 38 mOhm; Value: 1500uF; PartId: 26739; Supplier 1: Digi-Key; Supplier Part Number 1: 493-5364-3-ND; ComponentLink1Description: Datasheet; ComponentLink1URL: http://nichicon-us.com/english/products/pdfs/e-ups.pdf; ComponentLink2Description: Digi-Key Listing; ComponentLink2URL: https://www.digikey.com/product-detail/en/nichicon/UPS1E152MHD1TN/493-5364-3-ND/3130369; Tolerance: 20%; Voltage: 25V; Price: 0.4916; Device Package: Radial, Can, 16mm
footprint CAP AL TH D16 L7.5 H27
pins: 1, 2

## UPS1E222MHD1TN
designator C?, comment 2200uF  (value not drawn)
CAP ALUM 2200UF 20% 25V RADIAL; Part Number: UPS1E222MHD1TN; Manufacturer: Nichicon; TemperatureRange: -55C ~ 105C; Type: Polar; Ripple Current: 1.653A @ 120Hz; Impedance: 38 mOhm; Value: 2200uF; PartId: 26738; Supplier 1: Digi-Key; Supplier Part Number 1: 493-5365-3-ND; ComponentLink1Description: Datasheet; ComponentLink1URL: http://nichicon-us.com/english/products/pdfs/e-ups.pdf; ComponentLink2Description: Digi-Key Listing; ComponentLink2URL: https://www.digikey.com/product-detail/en/nichicon/UPS1E222MHD1TN/493-5365-3-ND/3130370; Tolerance: 20%; Voltage: 25V; Price: 0.488; Device Package: Radial, Can, 16mm
footprint CAP AL TH D16 L7.5 H27
pins: 1, 2

## UPS1E331MPD1TD
designator C?, comment 330uF  (value not drawn)
CAP ALUM 330UF 20% 25V RADIAL; Part Number: UPS1E331MPD1TD; Manufacturer: Nichicon; TemperatureRange: -55C ~ 105C; Type: Polar; Ripple Current: 426mA @ 120Hz; Impedance: 190 mOhm; Value: 330uF; PartId: 24552; Supplier 1: Digi-Key; Supplier Part Number 1: 493-11803-3-ND; ComponentLink1Description: Datasheet; ComponentLink1URL: http://nichicon-us.com/english/products/pdfs/e-ups.pdf; ComponentLink2Description: Digi-Key Listing; ComponentLink2URL: https://www.digikey.com/product-detail/en/nichicon/UPS1E331MPD1TD/493-11803-3-ND/4320946; Tolerance: 20%; Voltage: 25V; Price: 0.15; Device Package: Radial, Can, 10mm
footprint CAP AL TH D10 L5 H14.5
pins: 1, 2

## UPS1H151MPD1TD
designator C?, comment 150uF  (value not drawn)
CAP ALUM 150UF 20% 50V RADIAL; Part Number: UPS1H151MPD1TD; Manufacturer: Nichicon; TemperatureRange: -55C ~ 105C; Type: Polar; Ripple Current: 245mA @ 120Hz; Impedance: 260 mOhm; Value: 150uF; PartId: 24605; Supplier 1: Digi-Key; Supplier Part Number 1: 493-5367-3-ND; ComponentLink1Description: Datasheet; ComponentLink1URL: http://nichicon-us.com/english/products/pdfs/e-ups.pdf; ComponentLink2Description: Digi-Key Listing; ComponentLink2URL: https://www.digikey.com/product-detail/en/nichicon/UPS1H151MPD1TD/493-5367-3-ND/3130372; Tolerance: 20%; Voltage: 50V; Price: 0.182; Device Package: Radial, Can, 10mm
footprint CAP AL TH D10 L5 H14.5
pins: 1, 2

## UPS1H152MHD
designator C?, comment 1500uF  (value not drawn)
CAP ALUM 1500UF 20% 50V RADIAL; Part Number: UPS1H152MHD; Manufacturer: Nichicon; TemperatureRange: -55C ~ 105C; Type: Polar; Ripple Current: 1.74A @ 120Hz; Impedance: 40 mOhm; Value: 1500uF; PartId: 27065; Supplier 1: Digi-Key; Supplier Part Number 1: 493-11148-ND; ComponentLink1Description: Datasheet; ComponentLink1URL: http://nichicon-us.com/english/products/pdfs/e-ups.pdf; ComponentLink2Description: Digi-Key Listing; ComponentLink2URL: https://www.digikey.com/product-detail/en/nichicon/UPS1H152MHD/493-11148-ND/2599952; Tolerance: 20%; Voltage: 50V; Price: 1.62; Device Package: Radial, Can, 16mm
footprint CAP AL TH D16 L7.5 H33.5
pins: 1, 2

## UPS1H221MPD1TD
designator C?, comment 220uF  (value not drawn)
CAP ALUM 220UF 20% 50V RADIAL; Part Number: UPS1H221MPD1TD; Manufacturer: Nichicon; TemperatureRange: -55C ~ 105C; Type: Polar; Ripple Current: 325mA @ 120Hz; Impedance: 180 mOhm; Value: 220uF; PartId: 25037; Supplier 1: Digi-Key; Supplier Part Number 1: 493-11881-3-ND; ComponentLink1Description: Datasheet; ComponentLink1URL: http://nichicon-us.com/english/products/pdfs/e-ups.pdf; ComponentLink2Description: Digi-Key Listing; ComponentLink2URL: https://www.digikey.com/product-detail/en/nichicon/UPS1H221MPD1TD/493-11881-3-ND/4321024; Tolerance: 20%; Voltage: 50V; Price: 0.1844; Device Package: Radial, Can, 10mm
footprint CAP AL TH D10 L5 H17.5
pins: 1, 2

## UPS1H471MHD
designator C?, comment 470uF  (value not drawn)
CAP ALUM 470UF 20% 50V RADIAL; Part Number: UPS1H471MHD; Manufacturer: Nichicon; TemperatureRange: -55C ~ 105C; Type: Polar; Ripple Current: 781mA @ 120Hz; Impedance: 130 mOhm; Value: 470uF; PartId: 22849; Supplier 1: Digi-Key; Supplier Part Number 1: UPS1H471MHD-ND; ComponentLink1Description: Datasheet; ComponentLink1URL: http://nichicon-us.com/english/products/pdfs/e-ups.pdf; ComponentLink2Description: Digi-Key Listing; ComponentLink2URL: https://www.digikey.com/product-detail/en/nichicon/UPS1H471MHD/UPS1H471MHD-ND/2428065; Tolerance: 20%; Voltage: 50V; Price: 0; Device Package: Radial, Can, 12.5mm
footprint CAP AL TH D12.5 L5 H20
pins: 1, 2

## UPS1H471MHD1TO
designator C?, comment 470uF  (value not drawn)
CAP ALUM 470UF 20% 50V RADIAL; Part Number: UPS1H471MHD1TO; Manufacturer: Nichicon; TemperatureRange: -55C ~ 105C; Type: Polar; Ripple Current: 781mA @ 120Hz; Impedance: 130 mOhm; Value: 470uF; PartId: 23137; Supplier 1: Digi-Key; Supplier Part Number 1: 493-11985-3-ND; ComponentLink1Description: Datasheet; ComponentLink1URL: http://nichicon-us.com/english/products/pdfs/e-ups.pdf; ComponentLink2Description: Digi-Key Listing; ComponentLink2URL: https://www.digikey.com/product-detail/en/nichicon/UPS1H471MHD1TO/493-11985-3-ND/4321128; Tolerance: 20%; Voltage: 50V; Price: 0.2527; Device Package: Radial, Can, 12.5mm
footprint CAP AL TH D12.5 L5 H22
pins: 1, 2

## UPS1H681MHD1TO
designator C?, comment 680uF  (value not drawn)
CAP ALUM 680UF 20% 50V RADIAL; Part Number: UPS1H681MHD1TO; Manufacturer: Nichicon; TemperatureRange: -55C ~ 105C; Type: Polar; Ripple Current: 852mA @ 120Hz; Impedance: 100 mOhm; Value: 680uF; PartId: 24028; Supplier 1: Digi-Key; Supplier Part Number 1: 493-12188-1-ND; ComponentLink1Description: Datasheet; ComponentLink1URL: http://nichicon-us.com/english/products/pdfs/e-ups.pdf; ComponentLink2Description: Digi-Key Listing; ComponentLink2URL: https://www.digikey.com/product-detail/en/nichicon/UPS1H681MHD1TO/493-12188-1-ND/4319741; Tolerance: 20%; Voltage: 50V; Price: 1.08; Device Package: Radial, Can, 12.5mm
footprint CAP AL TH D12.5 L5 H27
pins: 1, 2

## UPS1J101MPD1TD
designator C?, comment 100uF  (value not drawn)
CAP ALUM 100UF 20% 63V RADIAL; Part Number: UPS1J101MPD1TD; Manufacturer: Nichicon; TemperatureRange: -55C ~ 105C; Type: Polar; Ripple Current: 195mA @ 120Hz; Impedance: 310 mOhm; Value: 100uF; PartId: 24559; Supplier 1: Digi-Key; Supplier Part Number 1: 493-11805-3-ND; ComponentLink1Description: Datasheet; ComponentLink1URL: http://nichicon-us.com/english/products/pdfs/e-ups.pdf; ComponentLink2Description: Digi-Key Listing; ComponentLink2URL: https://www.digikey.com/product-detail/en/nichicon/UPS1J101MPD1TD/493-11805-3-ND/4320948; Tolerance: 20%; Voltage: 63V; Price: 0.1528; Device Package: Radial, Can, 10mm
footprint CAP AL TH D10 L5 H14.5
pins: 1, 2

## UPS1J102MHD
designator C?, comment 1000uF  (value not drawn)
CAP ALUM 1000UF 20% 63V RADIAL; Part Number: UPS1J102MHD; Manufacturer: Nichicon; TemperatureRange: -55C ~ 105C; Type: Polar; Ripple Current: 1.201A @ 120Hz; Impedance: 49 mOhm; Value: 1000uF; PartId: 27098; Supplier 1: Digi-Key; Supplier Part Number 1: 493-5656-ND; ComponentLink1Description: Datasheet; ComponentLink1URL: http://nichicon-us.com/english/products/pdfs/e-ups.pdf; ComponentLink2Description: Digi-Key Listing; ComponentLink2URL: https://www.digikey.com/product-detail/en/nichicon/UPS1J102MHD/493-5656-ND/2599968; Tolerance: 20%; Voltage: 63V; Price: 1.73; Device Package: Radial, Can, 16mm
footprint CAP AL TH D16 L7.5 H33.5
pins: 1, 2

## UPS1J151MPD1TD
designator C?, comment 150uF  (value not drawn)
CAP ALUM 150UF 20% 63V RADIAL; Part Number: UPS1J151MPD1TD; Manufacturer: Nichicon; TemperatureRange: -55C ~ 105C; Type: Polar; Ripple Current: 220mA @ 120Hz; Impedance: 250 mOhm; Value: 150uF; PartId: 25064; Supplier 1: Digi-Key; Supplier Part Number 1: 493-5373-3-ND; ComponentLink1Description: Datasheet; ComponentLink1URL: http://nichicon-us.com/english/products/pdfs/e-ups.pdf; ComponentLink2Description: Digi-Key Listing; ComponentLink2URL: https://www.digikey.com/product-detail/en/nichicon/UPS1J151MPD1TD/493-5373-3-ND/3130378; Tolerance: 20%; Voltage: 63V; Price: 0.2228; Device Package: Radial, Can, 10mm
footprint CAP AL TH D10 L5 H17.5
pins: 1, 2

## UPS1J221MPD1TD
designator C?, comment 220uF  (value not drawn)
CAP ALUM 220UF 20% 63V RADIAL; Part Number: UPS1J221MPD1TD; Manufacturer: Nichicon; TemperatureRange: -55C ~ 105C; Type: Polar; Ripple Current: 350mA @ 120Hz; Impedance: 200 mOhm; Value: 220uF; PartId: 25769; Supplier 1: Digi-Key; Supplier Part Number 1: 493-11951-3-ND; ComponentLink1Description: Datasheet; ComponentLink1URL: http://nichicon-us.com/english/products/pdfs/e-ups.pdf; ComponentLink2Description: Digi-Key Listing; ComponentLink2URL: https://www.digikey.com/product-detail/en/nichicon/UPS1J221MPD1TD/493-11951-3-ND/4321094; Tolerance: 20%; Voltage: 63V; Price: 0.2262; Device Package: Radial, Can, 10mm
footprint CAP AL TH D10 L5 H22
pins: 1, 2

## UPS1J331MHD1TO
designator C?, comment 330uF  (value not drawn)
CAP ALUM 330UF 20% 63V RADIAL; Part Number: UPS1J331MHD1TO; Manufacturer: Nichicon; TemperatureRange: -55C ~ 105C; Type: Polar; Ripple Current: 695.8mA @ 120Hz; Impedance: 120 mOhm; Value: 330uF; PartId: 23157; Supplier 1: Digi-Key; Supplier Part Number 1: 493-12049-3-ND; ComponentLink1Description: Datasheet; ComponentLink1URL: http://nichicon-us.com/english/products/pdfs/e-ups.pdf; ComponentLink2Description: Digi-Key Listing; ComponentLink2URL: https://www.digikey.com/product-detail/en/nichicon/UPS1J331MHD1TO/493-12049-3-ND/4321192; Tolerance: 20%; Voltage: 63V; Price: 0.314; Device Package: Radial, Can, 12.5mm
footprint CAP AL TH D12.5 L5 H22
pins: 1, 2

## UPS1J471MHD1TO
designator C?, comment 470uF  (value not drawn)
CAP ALUM 470UF 20% 63V RADIAL; Part Number: UPS1J471MHD1TO; Manufacturer: Nichicon; TemperatureRange: -55C ~ 105C; Type: Polar; Ripple Current: 852mA @ 120Hz; Impedance: 81 mOhm; Value: 470uF; PartId: 23824; Supplier 1: Digi-Key; Supplier Part Number 1: 493-12175-3-ND; ComponentLink1Description: Datasheet; ComponentLink1URL: http://nichicon-us.com/english/products/pdfs/e-ups.pdf; ComponentLink2Description: Digi-Key Listing; ComponentLink2URL: https://www.digikey.com/product-detail/en/nichicon/UPS1J471MHD1TO/493-12175-3-ND/4321318; Tolerance: 20%; Voltage: 63V; Price: 0.4411; Device Package: Radial, Can, 12.5mm
footprint CAP AL TH D12.5 L5 H27
pins: 1, 2

## UPS1V102MHD
designator C?, comment 1000uF  (value not drawn)
CAP ALUM 1000UF 20% 35V RADIAL; Part Number: UPS1V102MHD; Manufacturer: Nichicon; TemperatureRange: -55C ~ 105C; Type: Polar; Ripple Current: 1.349A @ 120Hz; Impedance: 57 mOhm; Value: 1000uF; PartId: 23574; Supplier 1: Digi-Key; Supplier Part Number 1: UPS1V102MHD-ND; ComponentLink1Description: Datasheet; ComponentLink1URL: http://nichicon-us.com/english/products/pdfs/e-ups.pdf; ComponentLink2Description: Digi-Key Listing; ComponentLink2URL: https://www.digikey.com/product-detail/en/nichicon/UPS1V102MHD/UPS1V102MHD-ND/2428064; Tolerance: 20%; Voltage: 35V; Price: 0.97; Device Package: Radial, Can, 12.5mm
footprint CAP AL TH D12.5 L5 H25
pins: 1, 2

## UPS1V102MHD1TO
designator C?, comment 1000uF  (value not drawn)
CAP ALUM 1000UF 20% 35V RADIAL; Part Number: UPS1V102MHD1TO; Manufacturer: Nichicon; TemperatureRange: -55C ~ 105C; Type: Polar; Ripple Current: 1.349A @ 120Hz; Impedance: 57 mOhm; Value: 1000uF; PartId: 23948; Supplier 1: Digi-Key; Supplier Part Number 1: 493-12150-1-ND; ComponentLink1Description: Datasheet; ComponentLink1URL: http://nichicon-us.com/english/products/pdfs/e-ups.pdf; ComponentLink2Description: Digi-Key Listing; ComponentLink2URL: https://www.digikey.com/product-detail/en/nichicon/UPS1V102MHD1TO/493-12150-1-ND/4319750; Tolerance: 20%; Voltage: 35V; Price: 0.97; Device Package: Radial, Can, 12.5mm
footprint CAP AL TH D12.5 L5 H27
pins: 1, 2

## UPS1V221MPD1TD
designator C?, comment 220uF  (value not drawn)
CAP ALUM 220UF 20% 35V RADIAL; Part Number: UPS1V221MPD1TD; Manufacturer: Nichicon; TemperatureRange: -55C ~ 105C; Type: Polar; Ripple Current: 300mA @ 120Hz; Impedance: 190 mOhm; Value: 220uF; PartId: 24560; Supplier 1: Digi-Key; Supplier Part Number 1: 493-11807-3-ND; ComponentLink1Description: Datasheet; ComponentLink1URL: http://nichicon-us.com/english/products/pdfs/e-ups.pdf; ComponentLink2Description: Digi-Key Listing; ComponentLink2URL: https://www.digikey.com/product-detail/en/nichicon/UPS1V221MPD1TD/493-11807-3-ND/4320950; Tolerance: 20%; Voltage: 35V; Price: 0.1534; Device Package: Radial, Can, 10mm
footprint CAP AL TH D10 L5 H14.5
pins: 1, 2